# Altium footprint library PCB - POWER INDUCTORS - TDK B82477C6xxxM603.PCBLIB: 1 footprints
Each footprint in its own frame and in the unit in brackets; x right, y up, seen from the top. Pads: shape width x height; smd on the part's side, far side on the other; paste and mask are expansions set on the pad; w line width, h text height; cw(c..) or ccw(c..) is an arc to the next point about the centre after c.
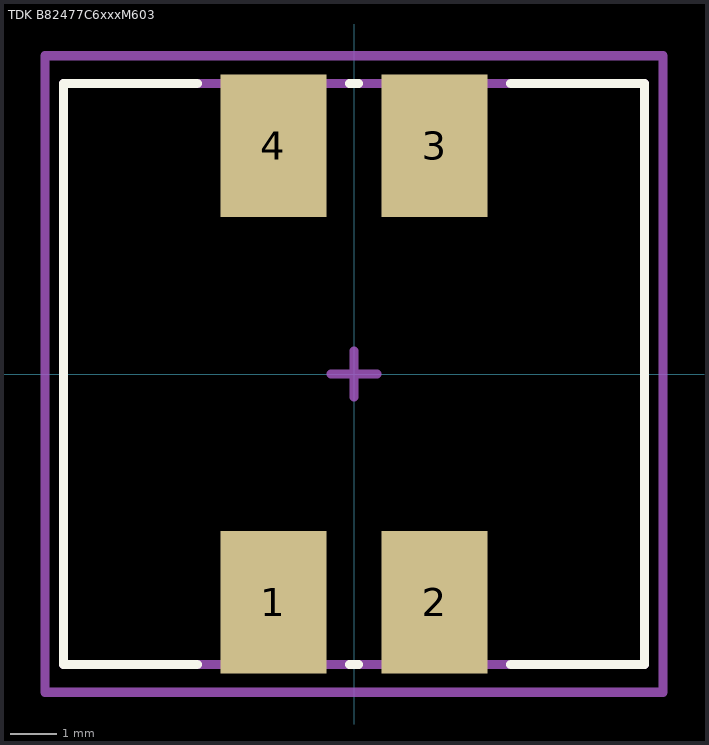
[diagram p0: the footprint, top view; thin cyan lines are the x and y axes]

## TDK B82477C6xxxM603 [mm] "DUAL INDUCTOR 12.5X12.5X10.5MM"
height 10.5
pads (4):
  rect 2.3x3.1 smd: 1(-1.75,-4.95) 2(1.75,-4.95) 3(1.75,4.95) 4(-1.75,4.95)
Top Overlay:
  lines w0.2: -3.4,-6.3 -6.3,-6.3 -6.3,6.3 -3.4,6.3 ; -0.1,-6.3 0.1,-6.3 ; -0.1,6.3 0.1,6.3 ; 3.4,-6.3 6.3,-6.3 6.3,6.3 3.4,6.3
Top Component Outline:
  lines w0.2: -6.3,-6.3 6.3,-6.3 6.3,6.3 -6.3,6.3 -6.3,-6.3
Top Assembly:
  lines w0.2: -0.5,0 0.5,0 ; 0,-0.5 0,0.5
Top Courtyard (Mech15):
  lines w0.2: -6.7,-6.9 -6.7,6.9 6.7,6.9 6.7,-6.9 -6.7,-6.9
3D body "TDK - B82477C6xxxM603.step": height 10.5, standoff -0.01, extent -6.25,-6.25 6.25,6.25